# Altium schematic symbol library kmilo17pet-Microchip_Flash.SchLib: 291 symbols (part 13 of 37)
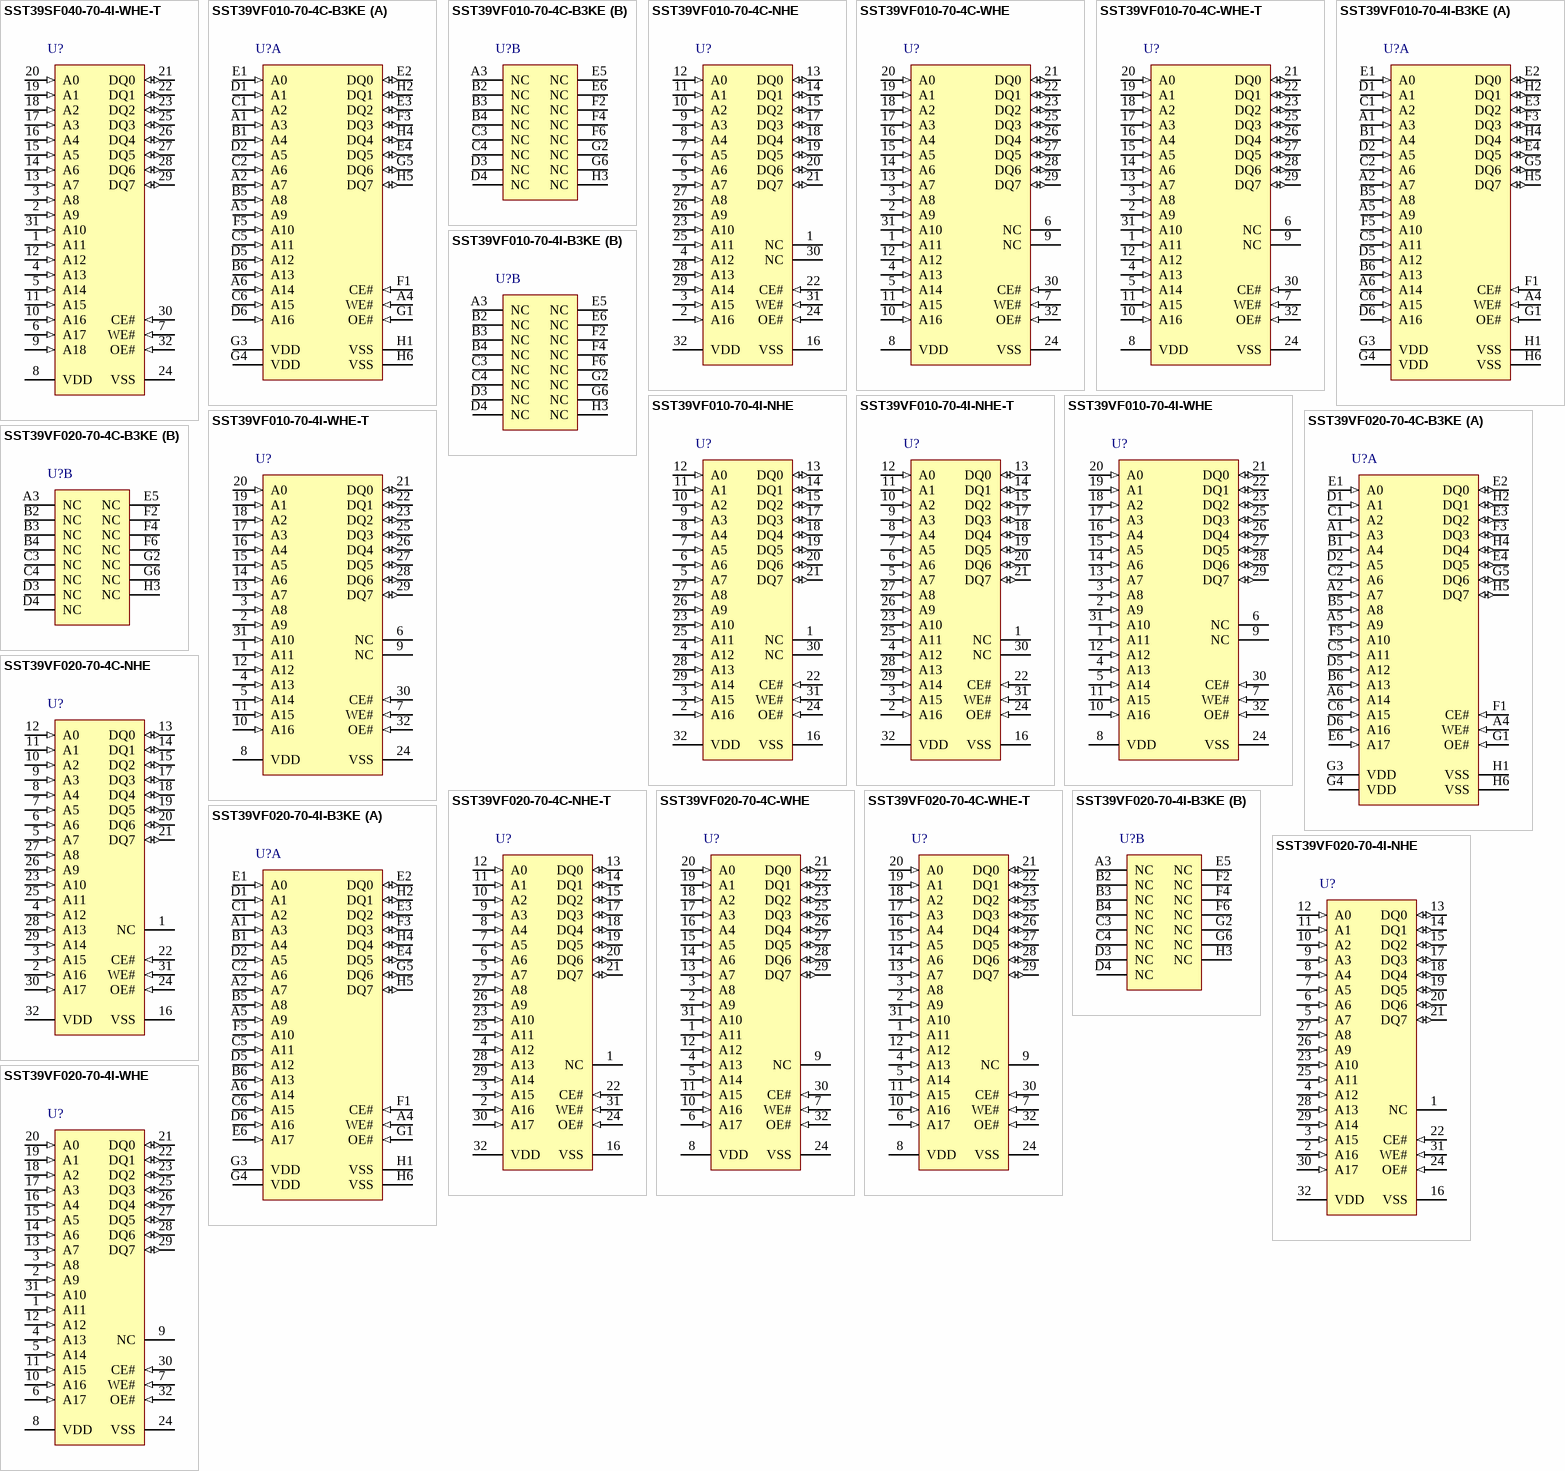
[diagram p27: symbols SST39SF040-70-4I-WHE-T to SST39VF020-70-4I-WHE]

## SST39VF010-70-4C-WHE-T
designator U?
1 Mbit Multi-Purpose Flash, 2.7 to 3.6 V, 1 kHz, 0 to 70 degC, 32-pin TSOP (WH32), Tape and Reel; Manufacturer: Microchip; PartNumber: SST39VF010-70-4C-WHE-T; DatasheetVersion: Rev. A; PackageVersion: Rev. A; PackageReference: TSOP-WH32; PackageDescription: 32-Lead Thin Small Outline Package, 12.4 x 8 mm Body, 0.5 mm Pitch; Supplier 1: Digi-Key; Supplier Part Number 1: SST39VF010-70-4C-WHE-T-ND; Mounting Technology: Surface Mount; Code_JEDEC: MO-142; ComponentLink1Description: Manufacturer URL; ComponentLink1URL: http://www.microchip.com; ComponentLink2Description: Datasheet; ComponentLink2URL: http://ww1.microchip.com/downloads/en/DeviceDoc/25023A.pdf; ComponentLink3Description: Package Specification; ComponentLink3URL: http://ww1.microchip.com/downloads/en/DeviceDoc/25022A.pdf; ComponentLink4Description: Product URL; ComponentLink4URL: http://www.microchip.com/SST39VF010
footprint MCHP-TSOP-WH32_N (SOP, 32-Leads, Body 12.4x8mm, Pitch 0.5mm, IPC Medium Density)
footprint MCHP-TSOP-WH32_L (SOP, 32-Leads, Body 12.4x8mm, Pitch 0.5mm, IPC High Density)
footprint MCHP-TSOP-WH32_M (SOP, 32-Leads, Body 12.4x8mm, Pitch 0.5mm, IPC Low Density)
pins: 1 A11 (in) "To provide memory addresses. During Sector-Erase AMS-A12 address lines will select the sector.", 2 A9 (in) "To provide memory addresses. During Sector-Erase AMS-A12 address lines will select the sector.", 3 A8 (in) "To provide memory addresses. During Sector-Erase AMS-A12 address lines will select the sector.", 4 A13 (in) "To provide memory addresses. During Sector-Erase AMS-A12 address lines will select the sector.", 5 A14 (in) "To provide memory addresses. During Sector-Erase AMS-A12 address lines will select the sector.", 6 NC "Unconnected pins.", 7 WE# (in) "To control the Write operations.", 8 VDD (power) "To provide power supply voltage", 9 NC "Unconnected pins.", 10 A16 (in) "To provide memory addresses. During Sector-Erase AMS-A12 address lines will select the sector.", 11 A15 (in) "To provide memory addresses. During Sector-Erase AMS-A12 address lines will select the sector.", 12 A12 (in) "To provide memory addresses. During Sector-Erase AMS-A12 address lines will select the sector.", 13 A7 (in) "To provide memory addresses. During Sector-Erase AMS-A12 address lines will select the sector.", 14 A6 (in) "To provide memory addresses. During Sector-Erase AMS-A12 address lines will select the sector.", 15 A5 (in) "To provide memory addresses. During Sector-Erase AMS-A12 address lines will select the sector.", 16 A4 (in) "To provide memory addresses. During Sector-Erase AMS-A12 address lines will select the sector.", 17 A3 (in) "To provide memory addresses. During Sector-Erase AMS-A12 address lines will select the sector.", 18 A2 (in) "To provide memory addresses. During Sector-Erase AMS-A12 address lines will select the sector.", 19 A1 (in) "To provide memory addresses. During Sector-Erase AMS-A12 address lines will select the sector.", 20 A0 (in) "To provide memory addresses. During Sector-Erase AMS-A12 address lines will select the sector.", 21 DQ0 (io) "To output data during Read cycles and receive input data during Write cycles. Data is internally latched during a Write cycle. The outputs are in tri-state when OE# or CE# is high.", 22 DQ1 (io) "To output data during Read cycles and receive input data during Write cycles. Data is internally latched during a Write cycle. The outputs are in tri-state when OE# or CE# is high.", 23 DQ2 (io) "To output data during Read cycles and receive input data during Write cycles. Data is internally latched during a Write cycle. The outputs are in tri-state when OE# or CE# is high.", 24 VSS (power) "Ground", 25 DQ3 (io) "To output data during Read cycles and receive input data during Write cycles. Data is internally latched during a Write cycle. The outputs are in tri-state when OE# or CE# is high.", 26 DQ4 (io) "To output data during Read cycles and receive input data during Write cycles. Data is internally latched during a Write cycle. The outputs are in tri-state when OE# or CE# is high.", 27 DQ5 (io) "To output data during Read cycles and receive input data during Write cycles. Data is internally latched during a Write cycle. The outputs are in tri-state when OE# or CE# is high.", 28 DQ6 (io) "To output data during Read cycles and receive input data during Write cycles. Data is internally latched during a Write cycle. The outputs are in tri-state when OE# or CE# is high.", 29 DQ7 (io) "To output data during Read cycles and receive input data during Write cycles. Data is internally latched during a Write cycle. The outputs are in tri-state when OE# or CE# is high.", 30 CE# (in) "To activate the device when CE# is low.", 31 A10 (in) "To provide memory addresses. During Sector-Erase AMS-A12 address lines will select the sector.", 32 OE# (in) "To gate the data output buffers."

## SST39VF010-70-4I-B3KE
designator U?
1 Mbit Multi-Purpose Flash, 2.7 to 3.6 V, 1 kHz, -40 to 85 degC, 48-pin TFBGA (B3K48), Tray; Manufacturer: Microchip; PartNumber: SST39VF010-70-4I-B3KE; DatasheetVersion: Rev. A; PackageVersion: Rev. A; PackageReference: TFBGA-B3K48; PackageDescription: 48-Ball Thin-Profile, Fine-Pitch Ball Grid Array, 8 x 6 mm Body, 0.8 mm Pitch; Supplier 1: Digi-Key; Supplier Part Number 1: SST39VF010-70-4I-B3KE-ND; Mounting Technology: Surface Mount; Code_JEDEC: MO-210; ComponentLink1Description: Manufacturer URL; ComponentLink1URL: http://www.microchip.com; ComponentLink2Description: Datasheet; ComponentLink2URL: http://ww1.microchip.com/downloads/en/DeviceDoc/25023A.pdf; ComponentLink3Description: Package Specification; ComponentLink3URL: http://www.microchip.com/stellent/groups/techpub_sg/documents/packagingspec/en012702.pdf; ComponentLink4Description: Product URL; ComponentLink4URL: http://www.microchip.com/SST39VF010
footprint MCHP-TFBGA-B3K48 (BGA, 48-Balls, Body 8x6mm, Pitch 0.8mm)
part A pins: A1 A3 (in) "To provide memory addresses. During Sector-Erase AMS-A12 address lines will select the sector. During Block-Erase AMS-A16 address lines will select the block.", A2 A7 (in) "To provide memory addresses. During Sector-Erase AMS-A12 address lines will select the sector. During Block-Erase AMS-A16 address lines will select the block.", A4 WE# (in) "To control the Write operations.", A5 A9 (in) "To provide memory addresses. During Sector-Erase AMS-A12 address lines will select the sector. During Block-Erase AMS-A16 address lines will select the block.", A6 A14 (in) "To provide memory addresses. During Sector-Erase AMS-A12 address lines will select the sector. During Block-Erase AMS-A16 address lines will select the block.", B1 A4 (in) "To provide memory addresses. During Sector-Erase AMS-A12 address lines will select the sector. During Block-Erase AMS-A16 address lines will select the block.", B5 A8 (in) "To provide memory addresses. During Sector-Erase AMS-A12 address lines will select the sector. During Block-Erase AMS-A16 address lines will select the block.", B6 A13 (in) "To provide memory addresses. During Sector-Erase AMS-A12 address lines will select the sector. During Block-Erase AMS-A16 address lines will select the block.", C1 A2 (in) "To provide memory addresses. During Sector-Erase AMS-A12 address lines will select the sector. During Block-Erase AMS-A16 address lines will select the block.", C2 A6 (in) "To provide memory addresses. During Sector-Erase AMS-A12 address lines will select the sector. During Block-Erase AMS-A16 address lines will select the block.", C5 A11 (in) "To provide memory addresses. During Sector-Erase AMS-A12 address lines will select the sector. During Block-Erase AMS-A16 address lines will select the block.", C6 A15 (in) "To provide memory addresses. During Sector-Erase AMS-A12 address lines will select the sector. During Block-Erase AMS-A16 address lines will select the block.", D1 A1 (in) "To provide memory addresses. During Sector-Erase AMS-A12 address lines will select the sector. During Block-Erase AMS-A16 address lines will select the block.", D2 A5 (in) "To provide memory addresses. During Sector-Erase AMS-A12 address lines will select the sector. During Block-Erase AMS-A16 address lines will select the block.", D5 A12 (in) "To provide memory addresses. During Sector-Erase AMS-A12 address lines will select the sector. During Block-Erase AMS-A16 address lines will select the block.", D6 A16 (in) "To provide memory addresses. During Sector-Erase AMS-A12 address lines will select the sector. During Block-Erase AMS-A16 address lines will select the block.", E1 A0 (in) "To provide memory addresses. During Sector-Erase AMS-A12 address lines will select the sector. During Block-Erase AMS-A16 address lines will select the block.", E2 DQ0 (io) "To output data during Read cycles and receive input data during Write cycles. Data is internally latched during a Write cycle. The outputs are in tri-state when OE# or CE# is high.", E3 DQ2 (io) "To output data during Read cycles and receive input data during Write cycles. Data is internally latched during a Write cycle. The outputs are in tri-state when OE# or CE# is high.", E4 DQ5 (io) "To output data during Read cycles and receive input data during Write cycles. Data is internally latched during a Write cycle. The outputs are in tri-state when OE# or CE# is high.", F1 CE# (in) "To activate the device when CE# is low.", F3 DQ3 (io) "To output data during Read cycles and receive input data during Write cycles. Data is internally latched during a Write cycle. The outputs are in tri-state when OE# or CE# is high.", F5 A10 (in) "To provide memory addresses. During Sector-Erase AMS-A12 address lines will select the sector. During Block-Erase AMS-A16 address lines will select the block.", G1 OE# (in) "To gate the data output buffers.", G3 VDD (power) "To provide power supply voltage: 2.7-3.6V for SST39VF010/020/040,3.0-3.6V for SST39LF010/020/040", G4 VDD (power) "To provide power supply voltage: 2.7-3.6V for SST39VF010/020/040,3.0-3.6V for SST39LF010/020/040", G5 DQ6 (io) "To output data during Read cycles and receive input data during Write cycles. Data is internally latched during a Write cycle. The outputs are in tri-state when OE# or CE# is high.", H1 VSS (power) "Ground", H2 DQ1 (io) "To output data during Read cycles and receive input data during Write cycles. Data is internally latched during a Write cycle. The outputs are in tri-state when OE# or CE# is high.", H4 DQ4 (io) "To output data during Read cycles and receive input data during Write cycles. Data is internally latched during a Write cycle. The outputs are in tri-state when OE# or CE# is high.", H5 DQ7 (io) "To output data during Read cycles and receive input data during Write cycles. Data is internally latched during a Write cycle. The outputs are in tri-state when OE# or CE# is high.", H6 VSS (power) "Ground"
part B pins: A3 NC "Unconnected pins.", B2 NC "Unconnected pins.", B3 NC "Unconnected pins.", B4 NC "Unconnected pins.", C3 NC "Unconnected pins.", C4 NC "Unconnected pins.", D3 NC "Unconnected pins.", D4 NC "Unconnected pins.", E5 NC "Unconnected pins.", E6 NC "Unconnected pins.", F2 NC "Unconnected pins.", F4 NC "Unconnected pins.", F6 NC "Unconnected pins.", G2 NC "Unconnected pins.", G6 NC "Unconnected pins.", H3 NC "Unconnected pins."

## SST39VF010-70-4I-NHE
designator U?
1 Mbit Multi-Purpose Flash, 2.7 to 3.6 V, 1 kHz, -40 to 85 degC, 32-pin PLCC (NH32), Tube; Manufacturer: Microchip; PartNumber: SST39VF010-70-4I-NHE; DatasheetVersion: Rev. A; PackageVersion: Rev. A; PackageReference: PLCC-NH32; PackageDescription: 32-lead Plastic Lead Chip Carrier, 11.43 x 13.97 mm Body, 1.27 mm Pitch; Supplier 1: Digi-Key; Supplier Part Number 1: SST39VF010-70-4I-NHE-ND; Mounting Technology: Surface Mount; Code_JEDEC: MS-016; ComponentLink1Description: Manufacturer URL; ComponentLink1URL: http://www.microchip.com; ComponentLink2Description: Datasheet; ComponentLink2URL: http://ww1.microchip.com/downloads/en/DeviceDoc/25023A.pdf; ComponentLink3Description: Package Specification; ComponentLink3URL: http://ww1.microchip.com/downloads/en/DeviceDoc/25022A.pdf; ComponentLink4Description: Product URL; ComponentLink4URL: http://www.microchip.com/SST39VF010
footprint MCHP-PLCC-NH32_N (PLCC, 32-Leads, Body 13.97x11.43mm, Pitch 1.27mm, IPC Medium Density)
footprint MCHP-PLCC-NH32_L (PLCC, 32-Leads, Body 13.97x11.43mm, Pitch 1.27mm, IPC High Density)
footprint MCHP-PLCC-NH32_M (PLCC, 32-Leads, Body 13.97x11.43mm, Pitch 1.27mm, IPC Low Density)
pins: 1 NC "Unconnected pins.", 2 A16 (in) "To provide memory addresses. During Sector-Erase AMS-A12 address lines will select the sector.", 3 A15 (in) "To provide memory addresses. During Sector-Erase AMS-A12 address lines will select the sector.", 4 A12 (in) "To provide memory addresses. During Sector-Erase AMS-A12 address lines will select the sector.", 5 A7 (in) "To provide memory addresses. During Sector-Erase AMS-A12 address lines will select the sector.", 6 A6 (in) "To provide memory addresses. During Sector-Erase AMS-A12 address lines will select the sector.", 7 A5 (in) "To provide memory addresses. During Sector-Erase AMS-A12 address lines will select the sector.", 8 A4 (in) "To provide memory addresses. During Sector-Erase AMS-A12 address lines will select the sector.", 9 A3 (in) "To provide memory addresses. During Sector-Erase AMS-A12 address lines will select the sector.", 10 A2 (in) "To provide memory addresses. During Sector-Erase AMS-A12 address lines will select the sector.", 11 A1 (in) "To provide memory addresses. During Sector-Erase AMS-A12 address lines will select the sector.", 12 A0 (in) "To provide memory addresses. During Sector-Erase AMS-A12 address lines will select the sector.", 13 DQ0 (io) "To output data during Read cycles and receive input data during Write cycles. Data is internally latched during a Write cycle. The outputs are in tri-state when OE# or CE# is high.", 14 DQ1 (io) "To output data during Read cycles and receive input data during Write cycles. Data is internally latched during a Write cycle. The outputs are in tri-state when OE# or CE# is high.", 15 DQ2 (io) "To output data during Read cycles and receive input data during Write cycles. Data is internally latched during a Write cycle. The outputs are in tri-state when OE# or CE# is high.", 16 VSS (power) "Ground.", 17 DQ3 (io) "To output data during Read cycles and receive input data during Write cycles. Data is internally latched during a Write cycle. The outputs are in tri-state when OE# or CE# is high.", 18 DQ4 (io) "To output data during Read cycles and receive input data during Write cycles. Data is internally latched during a Write cycle. The outputs are in tri-state when OE# or CE# is high.", 19 DQ5 (io) "To output data during Read cycles and receive input data during Write cycles. Data is internally latched during a Write cycle. The outputs are in tri-state when OE# or CE# is high.", 20 DQ6 (io) "To output data during Read cycles and receive input data during Write cycles. Data is internally latched during a Write cycle. The outputs are in tri-state when OE# or CE# is high.", 21 DQ7 (io) "To output data during Read cycles and receive input data during Write cycles. Data is internally latched during a Write cycle. The outputs are in tri-state when OE# or CE# is high.", 22 CE# (in) "To activate the device when CE# is low.", 23 A10 (in) "To provide memory addresses. During Sector-Erase AMS-A12 address lines will select the sector.", 24 OE# (in) "To gate the data output buffers.", 25 A11 (in) "To provide memory addresses. During Sector-Erase AMS-A12 address lines will select the sector.", 26 A9 (in) "To provide memory addresses. During Sector-Erase AMS-A12 address lines will select the sector.", 27 A8 (in) "To provide memory addresses. During Sector-Erase AMS-A12 address lines will select the sector.", 28 A13 (in) "To provide memory addresses. During Sector-Erase AMS-A12 address lines will select the sector.", 29 A14 (in) "To provide memory addresses. During Sector-Erase AMS-A12 address lines will select the sector.", 30 NC "Unconnected pins.", 31 WE# (in) "To control the Write operations.", 32 VDD (power) "To provide 5.0V supply (4.5-5.5V)"

## SST39VF010-70-4I-NHE-T
designator U?
1 Mbit Multi-Purpose Flash, 2.7 to 3.6 V, 1 kHz, -40 to 85 degC, 32-pin PLCC (NH32), Tape and Reel; Manufacturer: Microchip; PartNumber: SST39VF010-70-4I-NHE-T; DatasheetVersion: Rev. A; PackageVersion: Rev. A; PackageReference: PLCC-NH32; PackageDescription: 32-lead Plastic Lead Chip Carrier, 11.43 x 13.97 mm Body, 1.27 mm Pitch; Supplier 1: Digi-Key; Supplier Part Number 1: SST39VF010-70-4I-NHE-T-ND; Mounting Technology: Surface Mount; Code_JEDEC: MS-016; ComponentLink1Description: Manufacturer URL; ComponentLink1URL: http://www.microchip.com; ComponentLink2Description: Datasheet; ComponentLink2URL: http://ww1.microchip.com/downloads/en/DeviceDoc/25023A.pdf; ComponentLink3Description: Package Specification; ComponentLink3URL: http://ww1.microchip.com/downloads/en/DeviceDoc/25022A.pdf; ComponentLink4Description: Product URL; ComponentLink4URL: http://www.microchip.com/SST39VF010
footprint MCHP-PLCC-NH32_N (PLCC, 32-Leads, Body 13.97x11.43mm, Pitch 1.27mm, IPC Medium Density)
footprint MCHP-PLCC-NH32_L (PLCC, 32-Leads, Body 13.97x11.43mm, Pitch 1.27mm, IPC High Density)
footprint MCHP-PLCC-NH32_M (PLCC, 32-Leads, Body 13.97x11.43mm, Pitch 1.27mm, IPC Low Density)
pins: 1 NC "Unconnected pins.", 2 A16 (in) "To provide memory addresses. During Sector-Erase AMS-A12 address lines will select the sector.", 3 A15 (in) "To provide memory addresses. During Sector-Erase AMS-A12 address lines will select the sector.", 4 A12 (in) "To provide memory addresses. During Sector-Erase AMS-A12 address lines will select the sector.", 5 A7 (in) "To provide memory addresses. During Sector-Erase AMS-A12 address lines will select the sector.", 6 A6 (in) "To provide memory addresses. During Sector-Erase AMS-A12 address lines will select the sector.", 7 A5 (in) "To provide memory addresses. During Sector-Erase AMS-A12 address lines will select the sector.", 8 A4 (in) "To provide memory addresses. During Sector-Erase AMS-A12 address lines will select the sector.", 9 A3 (in) "To provide memory addresses. During Sector-Erase AMS-A12 address lines will select the sector.", 10 A2 (in) "To provide memory addresses. During Sector-Erase AMS-A12 address lines will select the sector.", 11 A1 (in) "To provide memory addresses. During Sector-Erase AMS-A12 address lines will select the sector.", 12 A0 (in) "To provide memory addresses. During Sector-Erase AMS-A12 address lines will select the sector.", 13 DQ0 (io) "To output data during Read cycles and receive input data during Write cycles. Data is internally latched during a Write cycle. The outputs are in tri-state when OE# or CE# is high.", 14 DQ1 (io) "To output data during Read cycles and receive input data during Write cycles. Data is internally latched during a Write cycle. The outputs are in tri-state when OE# or CE# is high.", 15 DQ2 (io) "To output data during Read cycles and receive input data during Write cycles. Data is internally latched during a Write cycle. The outputs are in tri-state when OE# or CE# is high.", 16 VSS (power) "Ground.", 17 DQ3 (io) "To output data during Read cycles and receive input data during Write cycles. Data is internally latched during a Write cycle. The outputs are in tri-state when OE# or CE# is high.", 18 DQ4 (io) "To output data during Read cycles and receive input data during Write cycles. Data is internally latched during a Write cycle. The outputs are in tri-state when OE# or CE# is high.", 19 DQ5 (io) "To output data during Read cycles and receive input data during Write cycles. Data is internally latched during a Write cycle. The outputs are in tri-state when OE# or CE# is high.", 20 DQ6 (io) "To output data during Read cycles and receive input data during Write cycles. Data is internally latched during a Write cycle. The outputs are in tri-state when OE# or CE# is high.", 21 DQ7 (io) "To output data during Read cycles and receive input data during Write cycles. Data is internally latched during a Write cycle. The outputs are in tri-state when OE# or CE# is high.", 22 CE# (in) "To activate the device when CE# is low.", 23 A10 (in) "To provide memory addresses. During Sector-Erase AMS-A12 address lines will select the sector.", 24 OE# (in) "To gate the data output buffers.", 25 A11 (in) "To provide memory addresses. During Sector-Erase AMS-A12 address lines will select the sector.", 26 A9 (in) "To provide memory addresses. During Sector-Erase AMS-A12 address lines will select the sector.", 27 A8 (in) "To provide memory addresses. During Sector-Erase AMS-A12 address lines will select the sector.", 28 A13 (in) "To provide memory addresses. During Sector-Erase AMS-A12 address lines will select the sector.", 29 A14 (in) "To provide memory addresses. During Sector-Erase AMS-A12 address lines will select the sector.", 30 NC "Unconnected pins.", 31 WE# (in) "To control the Write operations.", 32 VDD (power) "To provide 5.0V supply (4.5-5.5V)"

## SST39VF010-70-4I-WHE
designator U?
1 Mbit Multi-Purpose Flash, 2.7 to 3.6 V, 1 kHz, -40 to 85 degC, 32-pin TSOP (WH32), Tray; Manufacturer: Microchip; PartNumber: SST39VF010-70-4I-WHE; DatasheetVersion: Rev. A; PackageVersion: Rev. A; PackageReference: TSOP-WH32; PackageDescription: 32-Lead Thin Small Outline Package, 12.4 x 8 mm Body, 0.5 mm Pitch; Supplier 1: Digi-Key; Supplier Part Number 1: SST39VF010-70-4I-WHE-ND; Mounting Technology: Surface Mount; Code_JEDEC: MO-142; ComponentLink1Description: Manufacturer URL; ComponentLink1URL: http://www.microchip.com; ComponentLink2Description: Datasheet; ComponentLink2URL: http://ww1.microchip.com/downloads/en/DeviceDoc/25023A.pdf; ComponentLink3Description: Package Specification; ComponentLink3URL: http://ww1.microchip.com/downloads/en/DeviceDoc/25022A.pdf; ComponentLink4Description: Product URL; ComponentLink4URL: http://www.microchip.com/SST39VF010
footprint MCHP-TSOP-WH32_N (SOP, 32-Leads, Body 12.4x8mm, Pitch 0.5mm, IPC Medium Density)
footprint MCHP-TSOP-WH32_L (SOP, 32-Leads, Body 12.4x8mm, Pitch 0.5mm, IPC High Density)
footprint MCHP-TSOP-WH32_M (SOP, 32-Leads, Body 12.4x8mm, Pitch 0.5mm, IPC Low Density)
pins: 1 A11 (in) "To provide memory addresses. During Sector-Erase AMS-A12 address lines will select the sector.", 2 A9 (in) "To provide memory addresses. During Sector-Erase AMS-A12 address lines will select the sector.", 3 A8 (in) "To provide memory addresses. During Sector-Erase AMS-A12 address lines will select the sector.", 4 A13 (in) "To provide memory addresses. During Sector-Erase AMS-A12 address lines will select the sector.", 5 A14 (in) "To provide memory addresses. During Sector-Erase AMS-A12 address lines will select the sector.", 6 NC "Unconnected pins.", 7 WE# (in) "To control the Write operations.", 8 VDD (power) "To provide power supply voltage", 9 NC "Unconnected pins.", 10 A16 (in) "To provide memory addresses. During Sector-Erase AMS-A12 address lines will select the sector.", 11 A15 (in) "To provide memory addresses. During Sector-Erase AMS-A12 address lines will select the sector.", 12 A12 (in) "To provide memory addresses. During Sector-Erase AMS-A12 address lines will select the sector.", 13 A7 (in) "To provide memory addresses. During Sector-Erase AMS-A12 address lines will select the sector.", 14 A6 (in) "To provide memory addresses. During Sector-Erase AMS-A12 address lines will select the sector.", 15 A5 (in) "To provide memory addresses. During Sector-Erase AMS-A12 address lines will select the sector.", 16 A4 (in) "To provide memory addresses. During Sector-Erase AMS-A12 address lines will select the sector.", 17 A3 (in) "To provide memory addresses. During Sector-Erase AMS-A12 address lines will select the sector.", 18 A2 (in) "To provide memory addresses. During Sector-Erase AMS-A12 address lines will select the sector.", 19 A1 (in) "To provide memory addresses. During Sector-Erase AMS-A12 address lines will select the sector.", 20 A0 (in) "To provide memory addresses. During Sector-Erase AMS-A12 address lines will select the sector.", 21 DQ0 (io) "To output data during Read cycles and receive input data during Write cycles. Data is internally latched during a Write cycle. The outputs are in tri-state when OE# or CE# is high.", 22 DQ1 (io) "To output data during Read cycles and receive input data during Write cycles. Data is internally latched during a Write cycle. The outputs are in tri-state when OE# or CE# is high.", 23 DQ2 (io) "To output data during Read cycles and receive input data during Write cycles. Data is internally latched during a Write cycle. The outputs are in tri-state when OE# or CE# is high.", 24 VSS (power) "Ground", 25 DQ3 (io) "To output data during Read cycles and receive input data during Write cycles. Data is internally latched during a Write cycle. The outputs are in tri-state when OE# or CE# is high.", 26 DQ4 (io) "To output data during Read cycles and receive input data during Write cycles. Data is internally latched during a Write cycle. The outputs are in tri-state when OE# or CE# is high.", 27 DQ5 (io) "To output data during Read cycles and receive input data during Write cycles. Data is internally latched during a Write cycle. The outputs are in tri-state when OE# or CE# is high.", 28 DQ6 (io) "To output data during Read cycles and receive input data during Write cycles. Data is internally latched during a Write cycle. The outputs are in tri-state when OE# or CE# is high.", 29 DQ7 (io) "To output data during Read cycles and receive input data during Write cycles. Data is internally latched during a Write cycle. The outputs are in tri-state when OE# or CE# is high.", 30 CE# (in) "To activate the device when CE# is low.", 31 A10 (in) "To provide memory addresses. During Sector-Erase AMS-A12 address lines will select the sector.", 32 OE# (in) "To gate the data output buffers."

## SST39VF010-70-4I-WHE-T
designator U?
1 Mbit Multi-Purpose Flash, 2.7 to 3.6 V, 1 kHz, -40 to 85 degC, 32-pin TSOP (WH32), Tape and Reel; Manufacturer: Microchip; PartNumber: SST39VF010-70-4I-WHE-T; DatasheetVersion: Rev. A; PackageVersion: Rev. A; PackageReference: TSOP-WH32; PackageDescription: 32-Lead Thin Small Outline Package, 12.4 x 8 mm Body, 0.5 mm Pitch; Supplier 1: Digi-Key; Supplier Part Number 1: SST39VF010-70-4I-WHE-T-ND; Mounting Technology: Surface Mount; Code_JEDEC: MO-142; ComponentLink1Description: Manufacturer URL; ComponentLink1URL: http://www.microchip.com; ComponentLink2Description: Datasheet; ComponentLink2URL: http://ww1.microchip.com/downloads/en/DeviceDoc/25023A.pdf; ComponentLink3Description: Package Specification; ComponentLink3URL: http://ww1.microchip.com/downloads/en/DeviceDoc/25022A.pdf; ComponentLink4Description: Product URL; ComponentLink4URL: http://www.microchip.com/SST39VF010
footprint MCHP-TSOP-WH32_N (SOP, 32-Leads, Body 12.4x8mm, Pitch 0.5mm, IPC Medium Density)
footprint MCHP-TSOP-WH32_L (SOP, 32-Leads, Body 12.4x8mm, Pitch 0.5mm, IPC High Density)
footprint MCHP-TSOP-WH32_M (SOP, 32-Leads, Body 12.4x8mm, Pitch 0.5mm, IPC Low Density)
pins: 1 A11 (in) "To provide memory addresses. During Sector-Erase AMS-A12 address lines will select the sector.", 2 A9 (in) "To provide memory addresses. During Sector-Erase AMS-A12 address lines will select the sector.", 3 A8 (in) "To provide memory addresses. During Sector-Erase AMS-A12 address lines will select the sector.", 4 A13 (in) "To provide memory addresses. During Sector-Erase AMS-A12 address lines will select the sector.", 5 A14 (in) "To provide memory addresses. During Sector-Erase AMS-A12 address lines will select the sector.", 6 NC "Unconnected pins.", 7 WE# (in) "To control the Write operations.", 8 VDD (power) "To provide power supply voltage", 9 NC "Unconnected pins.", 10 A16 (in) "To provide memory addresses. During Sector-Erase AMS-A12 address lines will select the sector.", 11 A15 (in) "To provide memory addresses. During Sector-Erase AMS-A12 address lines will select the sector.", 12 A12 (in) "To provide memory addresses. During Sector-Erase AMS-A12 address lines will select the sector.", 13 A7 (in) "To provide memory addresses. During Sector-Erase AMS-A12 address lines will select the sector.", 14 A6 (in) "To provide memory addresses. During Sector-Erase AMS-A12 address lines will select the sector.", 15 A5 (in) "To provide memory addresses. During Sector-Erase AMS-A12 address lines will select the sector.", 16 A4 (in) "To provide memory addresses. During Sector-Erase AMS-A12 address lines will select the sector.", 17 A3 (in) "To provide memory addresses. During Sector-Erase AMS-A12 address lines will select the sector.", 18 A2 (in) "To provide memory addresses. During Sector-Erase AMS-A12 address lines will select the sector.", 19 A1 (in) "To provide memory addresses. During Sector-Erase AMS-A12 address lines will select the sector.", 20 A0 (in) "To provide memory addresses. During Sector-Erase AMS-A12 address lines will select the sector.", 21 DQ0 (io) "To output data during Read cycles and receive input data during Write cycles. Data is internally latched during a Write cycle. The outputs are in tri-state when OE# or CE# is high.", 22 DQ1 (io) "To output data during Read cycles and receive input data during Write cycles. Data is internally latched during a Write cycle. The outputs are in tri-state when OE# or CE# is high.", 23 DQ2 (io) "To output data during Read cycles and receive input data during Write cycles. Data is internally latched during a Write cycle. The outputs are in tri-state when OE# or CE# is high.", 24 VSS (power) "Ground", 25 DQ3 (io) "To output data during Read cycles and receive input data during Write cycles. Data is internally latched during a Write cycle. The outputs are in tri-state when OE# or CE# is high.", 26 DQ4 (io) "To output data during Read cycles and receive input data during Write cycles. Data is internally latched during a Write cycle. The outputs are in tri-state when OE# or CE# is high.", 27 DQ5 (io) "To output data during Read cycles and receive input data during Write cycles. Data is internally latched during a Write cycle. The outputs are in tri-state when OE# or CE# is high.", 28 DQ6 (io) "To output data during Read cycles and receive input data during Write cycles. Data is internally latched during a Write cycle. The outputs are in tri-state when OE# or CE# is high.", 29 DQ7 (io) "To output data during Read cycles and receive input data during Write cycles. Data is internally latched during a Write cycle. The outputs are in tri-state when OE# or CE# is high.", 30 CE# (in) "To activate the device when CE# is low.", 31 A10 (in) "To provide memory addresses. During Sector-Erase AMS-A12 address lines will select the sector.", 32 OE# (in) "To gate the data output buffers."

## SST39VF020-70-4C-B3KE
designator U?
2 Mbit Multi-Purpose Flash, 2.7 to 3.6 V, 1 kHz, 0 to 70 degC, 48-pin TFBGA (B3K48), Tray; Manufacturer: Microchip; PartNumber: SST39VF020-70-4C-B3KE; DatasheetVersion: Rev. A; PackageVersion: Rev. A; PackageReference: TFBGA-B3K48; PackageDescription: 48-Ball Thin-Profile, Fine-Pitch Ball Grid Array, 8 x 6 mm Body, 0.8 mm Pitch; Supplier 1: Digi-Key; Supplier Part Number 1: SST39VF020-70-4C-B3KE-ND; Mounting Technology: Surface Mount; Code_JEDEC: MO-210; ComponentLink1Description: Manufacturer URL; ComponentLink1URL: http://www.microchip.com; ComponentLink2Description: Datasheet; ComponentLink2URL: http://ww1.microchip.com/downloads/en/DeviceDoc/25023A.pdf; ComponentLink3Description: Package Specification; ComponentLink3URL: http://www.microchip.com/stellent/groups/techpub_sg/documents/packagingspec/en012702.pdf; ComponentLink4Description: Product URL; ComponentLink4URL: http://www.microchip.com/SST39VF020
footprint MCHP-TFBGA-B3K48 (BGA, 48-Balls, Body 8x6mm, Pitch 0.8mm)
part A pins: A1 A3 (in) "To provide memory addresses. During Sector-Erase AMS-A12 address lines will select the sector. During Block-Erase AMS-A16 address lines will select the block.", A2 A7 (in) "To provide memory addresses. During Sector-Erase AMS-A12 address lines will select the sector. During Block-Erase AMS-A16 address lines will select the block.", A4 WE# (in) "To control the Write operations.", A5 A9 (in) "To provide memory addresses. During Sector-Erase AMS-A12 address lines will select the sector. During Block-Erase AMS-A16 address lines will select the block.", A6 A14 (in) "To provide memory addresses. During Sector-Erase AMS-A12 address lines will select the sector. During Block-Erase AMS-A16 address lines will select the block.", B1 A4 (in) "To provide memory addresses. During Sector-Erase AMS-A12 address lines will select the sector. During Block-Erase AMS-A16 address lines will select the block.", B5 A8 (in) "To provide memory addresses. During Sector-Erase AMS-A12 address lines will select the sector. During Block-Erase AMS-A16 address lines will select the block.", B6 A13 (in) "To provide memory addresses. During Sector-Erase AMS-A12 address lines will select the sector. During Block-Erase AMS-A16 address lines will select the block.", C1 A2 (in) "To provide memory addresses. During Sector-Erase AMS-A12 address lines will select the sector. During Block-Erase AMS-A16 address lines will select the block.", C2 A6 (in) "To provide memory addresses. During Sector-Erase AMS-A12 address lines will select the sector. During Block-Erase AMS-A16 address lines will select the block.", C5 A11 (in) "To provide memory addresses. During Sector-Erase AMS-A12 address lines will select the sector. During Block-Erase AMS-A16 address lines will select the block.", C6 A15 (in) "To provide memory addresses. During Sector-Erase AMS-A12 address lines will select the sector. During Block-Erase AMS-A16 address lines will select the block.", D1 A1 (in) "To provide memory addresses. During Sector-Erase AMS-A12 address lines will select the sector. During Block-Erase AMS-A16 address lines will select the block.", D2 A5 (in) "To provide memory addresses. During Sector-Erase AMS-A12 address lines will select the sector. During Block-Erase AMS-A16 address lines will select the block.", D5 A12 (in) "To provide memory addresses. During Sector-Erase AMS-A12 address lines will select the sector. During Block-Erase AMS-A16 address lines will select the block.", D6 A16 (in) "To provide memory addresses. During Sector-Erase AMS-A12 address lines will select the sector. During Block-Erase AMS-A16 address lines will select the block.", E1 A0 (in) "To provide memory addresses. During Sector-Erase AMS-A12 address lines will select the sector. During Block-Erase AMS-A16 address lines will select the block.", E2 DQ0 (io) "To output data during Read cycles and receive input data during Write cycles. Data is internally latched during a Write cycle. The outputs are in tri-state when OE# or CE# is high.", E3 DQ2 (io) "To output data during Read cycles and receive input data during Write cycles. Data is internally latched during a Write cycle. The outputs are in tri-state when OE# or CE# is high.", E4 DQ5 (io) "To output data during Read cycles and receive input data during Write cycles. Data is internally latched during a Write cycle. The outputs are in tri-state when OE# or CE# is high.", E6 A17 (in) "To provide memory addresses. During Sector-Erase AMS-A12 address lines will select the sector. During Block-Erase AMS-A16 address lines will select the block.", F1 CE# (in) "To activate the device when CE# is low.", F3 DQ3 (io) "To output data during Read cycles and receive input data during Write cycles. Data is internally latched during a Write cycle. The outputs are in tri-state when OE# or CE# is high.", F5 A10 (in) "To provide memory addresses. During Sector-Erase AMS-A12 address lines will select the sector. During Block-Erase AMS-A16 address lines will select the block.", G1 OE# (in) "To gate the data output buffers.", G3 VDD (power) "To provide power supply voltage: 3.0-3.6V for SST39LF010/020/040,2.7-3.6V for SST39VF010/020/040", G4 VDD (power) "To provide power supply voltage: 3.0-3.6V for SST39LF010/020/040,2.7-3.6V for SST39VF010/020/040", G5 DQ6 (io) "To output data during Read cycles and receive input data during Write cycles. Data is internally latched during a Write cycle. The outputs are in tri-state when OE# or CE# is high.", H1 VSS (power) "Ground", H2 DQ1 (io) "To output data during Read cycles and receive input data during Write cycles. Data is internally latched during a Write cycle. The outputs are in tri-state when OE# or CE# is high.", H4 DQ4 (io) "To output data during Read cycles and receive input data during Write cycles. Data is internally latched during a Write cycle. The outputs are in tri-state when OE# or CE# is high.", H5 DQ7 (io) "To output data during Read cycles and receive input data during Write cycles. Data is internally latched during a Write cycle. The outputs are in tri-state when OE# or CE# is high.", H6 VSS (power) "Ground"
part B pins: A3 NC "Unconnected pins.", B2 NC "Unconnected pins.", B3 NC "Unconnected pins.", B4 NC "Unconnected pins.", C3 NC "Unconnected pins.", C4 NC "Unconnected pins.", D3 NC "Unconnected pins.", D4 NC "Unconnected pins.", E5 NC "Unconnected pins.", F2 NC "Unconnected pins.", F4 NC "Unconnected pins.", F6 NC "Unconnected pins.", G2 NC "Unconnected pins.", G6 NC "Unconnected pins.", H3 NC "Unconnected pins."

## SST39VF020-70-4C-NHE
designator U?
2 Mbit Multi-Purpose Flash, 2.7 to 3.6 V, 1 kHz, 0 to 70 degC, 32-pin PLCC (NH32), Tube; Manufacturer: Microchip; PartNumber: SST39VF020-70-4C-NHE; DatasheetVersion: Rev. A; PackageVersion: Rev. A; PackageReference: PLCC-NH32; PackageDescription: 32-lead Plastic Lead Chip Carrier, 11.43 x 13.97 mm Body, 1.27 mm Pitch; Supplier 1: Digi-Key; Supplier Part Number 1: SST39VF020-70-4C-NHE-ND; Mounting Technology: Surface Mount; Code_JEDEC: MS-016; ComponentLink1Description: Manufacturer URL; ComponentLink1URL: http://www.microchip.com; ComponentLink2Description: Datasheet; ComponentLink2URL: http://ww1.microchip.com/downloads/en/DeviceDoc/25023A.pdf; ComponentLink3Description: Package Specification; ComponentLink3URL: http://ww1.microchip.com/downloads/en/DeviceDoc/25022A.pdf; ComponentLink4Description: Product URL; ComponentLink4URL: http://www.microchip.com/SST39VF020
footprint MCHP-PLCC-NH32_N (PLCC, 32-Leads, Body 13.97x11.43mm, Pitch 1.27mm, IPC Medium Density)
footprint MCHP-PLCC-NH32_L (PLCC, 32-Leads, Body 13.97x11.43mm, Pitch 1.27mm, IPC High Density)
footprint MCHP-PLCC-NH32_M (PLCC, 32-Leads, Body 13.97x11.43mm, Pitch 1.27mm, IPC Low Density)
pins: 1 NC "Unconnected pins.", 2 A16 (in) "To provide memory addresses. During Sector-Erase AMS-A12 address lines will select the sector.", 3 A15 (in) "To provide memory addresses. During Sector-Erase AMS-A12 address lines will select the sector.", 4 A12 (in) "To provide memory addresses. During Sector-Erase AMS-A12 address lines will select the sector.", 5 A7 (in) "To provide memory addresses. During Sector-Erase AMS-A12 address lines will select the sector.", 6 A6 (in) "To provide memory addresses. During Sector-Erase AMS-A12 address lines will select the sector.", 7 A5 (in) "To provide memory addresses. During Sector-Erase AMS-A12 address lines will select the sector.", 8 A4 (in) "To provide memory addresses. During Sector-Erase AMS-A12 address lines will select the sector.", 9 A3 (in) "To provide memory addresses. During Sector-Erase AMS-A12 address lines will select the sector.", 10 A2 (in) "To provide memory addresses. During Sector-Erase AMS-A12 address lines will select the sector.", 11 A1 (in) "To provide memory addresses. During Sector-Erase AMS-A12 address lines will select the sector.", 12 A0 (in) "To provide memory addresses. During Sector-Erase AMS-A12 address lines will select the sector.", 13 DQ0 (io) "To output data during Read cycles and receive input data during Write cycles. Data is internally latched during a Write cycle. The outputs are in tri-state when OE# or CE# is high.", 14 DQ1 (io) "To output data during Read cycles and receive input data during Write cycles. Data is internally latched during a Write cycle. The outputs are in tri-state when OE# or CE# is high.", 15 DQ2 (io) "To output data during Read cycles and receive input data during Write cycles. Data is internally latched during a Write cycle. The outputs are in tri-state when OE# or CE# is high.", 16 VSS (power) "Ground", 17 DQ3 (io) "To output data during Read cycles and receive input data during Write cycles. Data is internally latched during a Write cycle. The outputs are in tri-state when OE# or CE# is high.", 18 DQ4 (io) "To output data during Read cycles and receive input data during Write cycles. Data is internally latched during a Write cycle. The outputs are in tri-state when OE# or CE# is high.", 19 DQ5 (io) "To output data during Read cycles and receive input data during Write cycles. Data is internally latched during a Write cycle. The outputs are in tri-state when OE# or CE# is high.", 20 DQ6 (io) "To output data during Read cycles and receive input data during Write cycles. Data is internally latched during a Write cycle. The outputs are in tri-state when OE# or CE# is high.", 21 DQ7 (io) "To output data during Read cycles and receive input data during Write cycles. Data is internally latched during a Write cycle. The outputs are in tri-state when OE# or CE# is high.", 22 CE# (in) "To activate the device when CE# is low.", 23 A10 (in) "To provide memory addresses. During Sector-Erase AMS-A12 address lines will select the sector.", 24 OE# (in) "To gate the data output buffers.", 25 A11 (in) "To provide memory addresses. During Sector-Erase AMS-A12 address lines will select the sector.", 26 A9 (in) "To provide memory addresses. During Sector-Erase AMS-A12 address lines will select the sector.", 27 A8 (in) "To provide memory addresses. During Sector-Erase AMS-A12 address lines will select the sector.", 28 A13 (in) "To provide memory addresses. During Sector-Erase AMS-A12 address lines will select the sector.", 29 A14 (in) "To provide memory addresses. During Sector-Erase AMS-A12 address lines will select the sector.", 30 A17 (in) "To provide memory addresses. During Sector-Erase AMS-A12 address lines will select the sector.", 31 WE# (in) "To control the Write operations.", 32 VDD (power) "To provide power supply voltage"

## SST39VF020-70-4C-NHE-T
designator U?
2 Mbit Multi-Purpose Flash, 2.7 to 3.6 V, 1 kHz, 0 to 70 degC, 32-pin PLCC (NH32), Tape and Reel; Manufacturer: Microchip; PartNumber: SST39VF020-70-4C-NHE-T; DatasheetVersion: Rev. A; PackageVersion: Rev. A; PackageReference: PLCC-NH32; PackageDescription: 32-lead Plastic Lead Chip Carrier, 11.43 x 13.97 mm Body, 1.27 mm Pitch; Supplier 1: Digi-Key; Supplier Part Number 1: SST39VF020-70-4C-NHE-T-ND; Mounting Technology: Surface Mount; Code_JEDEC: MS-016; ComponentLink1Description: Manufacturer URL; ComponentLink1URL: http://www.microchip.com; ComponentLink2Description: Datasheet; ComponentLink2URL: http://ww1.microchip.com/downloads/en/DeviceDoc/25023A.pdf; ComponentLink3Description: Package Specification; ComponentLink3URL: http://ww1.microchip.com/downloads/en/DeviceDoc/25022A.pdf; ComponentLink4Description: Product URL; ComponentLink4URL: http://www.microchip.com/SST39VF020
footprint MCHP-PLCC-NH32_N (PLCC, 32-Leads, Body 13.97x11.43mm, Pitch 1.27mm, IPC Medium Density)
footprint MCHP-PLCC-NH32_L (PLCC, 32-Leads, Body 13.97x11.43mm, Pitch 1.27mm, IPC High Density)
footprint MCHP-PLCC-NH32_M (PLCC, 32-Leads, Body 13.97x11.43mm, Pitch 1.27mm, IPC Low Density)
pins: 1 NC "Unconnected pins.", 2 A16 (in) "To provide memory addresses. During Sector-Erase AMS-A12 address lines will select the sector.", 3 A15 (in) "To provide memory addresses. During Sector-Erase AMS-A12 address lines will select the sector.", 4 A12 (in) "To provide memory addresses. During Sector-Erase AMS-A12 address lines will select the sector.", 5 A7 (in) "To provide memory addresses. During Sector-Erase AMS-A12 address lines will select the sector.", 6 A6 (in) "To provide memory addresses. During Sector-Erase AMS-A12 address lines will select the sector.", 7 A5 (in) "To provide memory addresses. During Sector-Erase AMS-A12 address lines will select the sector.", 8 A4 (in) "To provide memory addresses. During Sector-Erase AMS-A12 address lines will select the sector.", 9 A3 (in) "To provide memory addresses. During Sector-Erase AMS-A12 address lines will select the sector.", 10 A2 (in) "To provide memory addresses. During Sector-Erase AMS-A12 address lines will select the sector.", 11 A1 (in) "To provide memory addresses. During Sector-Erase AMS-A12 address lines will select the sector.", 12 A0 (in) "To provide memory addresses. During Sector-Erase AMS-A12 address lines will select the sector.", 13 DQ0 (io) "To output data during Read cycles and receive input data during Write cycles. Data is internally latched during a Write cycle. The outputs are in tri-state when OE# or CE# is high.", 14 DQ1 (io) "To output data during Read cycles and receive input data during Write cycles. Data is internally latched during a Write cycle. The outputs are in tri-state when OE# or CE# is high.", 15 DQ2 (io) "To output data during Read cycles and receive input data during Write cycles. Data is internally latched during a Write cycle. The outputs are in tri-state when OE# or CE# is high.", 16 VSS (power) "Ground", 17 DQ3 (io) "To output data during Read cycles and receive input data during Write cycles. Data is internally latched during a Write cycle. The outputs are in tri-state when OE# or CE# is high.", 18 DQ4 (io) "To output data during Read cycles and receive input data during Write cycles. Data is internally latched during a Write cycle. The outputs are in tri-state when OE# or CE# is high.", 19 DQ5 (io) "To output data during Read cycles and receive input data during Write cycles. Data is internally latched during a Write cycle. The outputs are in tri-state when OE# or CE# is high.", 20 DQ6 (io) "To output data during Read cycles and receive input data during Write cycles. Data is internally latched during a Write cycle. The outputs are in tri-state when OE# or CE# is high.", 21 DQ7 (io) "To output data during Read cycles and receive input data during Write cycles. Data is internally latched during a Write cycle. The outputs are in tri-state when OE# or CE# is high.", 22 CE# (in) "To activate the device when CE# is low.", 23 A10 (in) "To provide memory addresses. During Sector-Erase AMS-A12 address lines will select the sector.", 24 OE# (in) "To gate the data output buffers.", 25 A11 (in) "To provide memory addresses. During Sector-Erase AMS-A12 address lines will select the sector.", 26 A9 (in) "To provide memory addresses. During Sector-Erase AMS-A12 address lines will select the sector.", 27 A8 (in) "To provide memory addresses. During Sector-Erase AMS-A12 address lines will select the sector.", 28 A13 (in) "To provide memory addresses. During Sector-Erase AMS-A12 address lines will select the sector.", 29 A14 (in) "To provide memory addresses. During Sector-Erase AMS-A12 address lines will select the sector.", 30 A17 (in) "To provide memory addresses. During Sector-Erase AMS-A12 address lines will select the sector.", 31 WE# (in) "To control the Write operations.", 32 VDD (power) "To provide power supply voltage"